# EAGLE library part TP4056 (library IC TP4056)
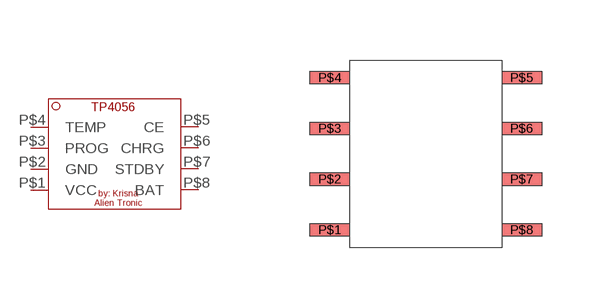
[diagram p0: symbol with the pads of TP4056; footprint TP4056]

Designator prefix -

## TP4056  [TP4056]
P$1  VCC
P$2  GND
P$3  PROG
P$4  TEMP
P$5  CE
P$6  CHRG
P$7  STDBY
P$8  BAT

## Footprint TP4056 (pad centres in mm)
Design by : Krisna Dwi Priyoga // krisnadwipriyoga@gmail.com //
smd 1 x 0.33: P$1 -0.5,0.445; P$2 -0.5,1.715; P$3 -0.5,2.985; P$4 -0.5,4.255; P$5 4.3,4.255; P$6 4.3,2.985; P$7 4.3,1.715; P$8 4.3,0.445